# EAGLE library part LT8613 (library linear-technology)
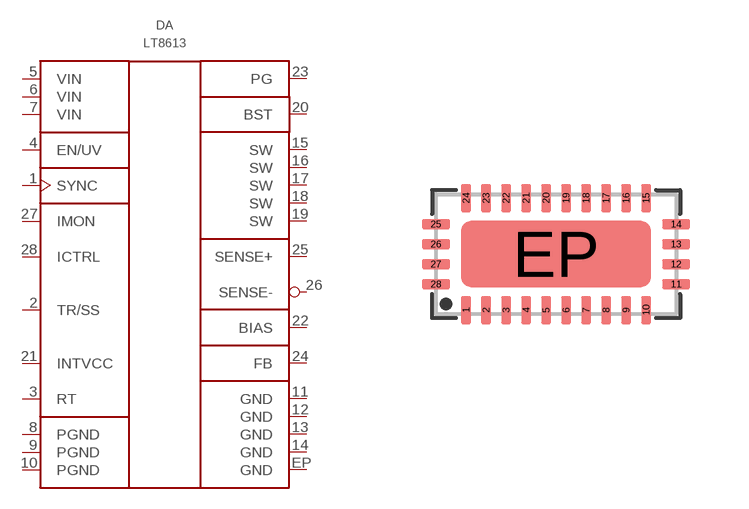
[diagram p10: symbol with the pads of 28-QFN; footprint 28-QFN]

Designator prefix DA

## LT8613EUDE#PBF  [28-QFN]
1  SYNC  in
2  TR/SS  out
3  RT  pas
4  EN/UV  in
5  VIN  pwr
6  VIN  pwr
7  VIN  pwr
8  PGND  pwr
9  PGND  pwr
10  PGND  pwr
11  GND  pwr
12  GND  pwr
13  GND  pwr
14  GND  pwr
15  SW  pas
16  SW  pas
17  SW  pas
18  SW  pas
19  SW  pas
20  BST  pas
21  INTVCC  out
22  BIAS  pas
23  PG  out
24  FB  out
25  SENSE+  in
26  SENSE-  in
27  IMON  out
28  ICTRL  in
EP  GND  pwr

## LT8613IUDE#PBF  [28-QFN]
Pads as for 28-QFN

## Footprint 28-QFN (pad centres in mm)
smd 0.25 x 0.7: 1 -2.25,-1.4; 2 -1.75,-1.4; 3 -1.25,-1.4; 4 -0.75,-1.4; 5 -0.25,-1.4; 6 0.25,-1.4; 7 0.75,-1.4; 8 1.25,-1.4; 9 1.75,-1.4; 10 2.25,-1.4; 15 2.25,1.4; 16 1.75,1.4; 17 1.25,1.4; 18 0.75,1.4; 19 0.25,1.4; 20 -0.25,1.4; 21 -0.75,1.4; 22 -1.25,1.4; 23 -1.75,1.4; 24 -2.25,1.4
smd 0.7 x 0.25: 11 3,-0.75; 12 3,-0.25; 13 3,0.25; 14 3,0.75; 25 -3,0.75; 26 -3,0.25; 27 -3,-0.25; 28 -3,-0.75
smd 4.75 x 1.65: EP 0,0